# EAGLE library part TUSB8020B (library capstone)
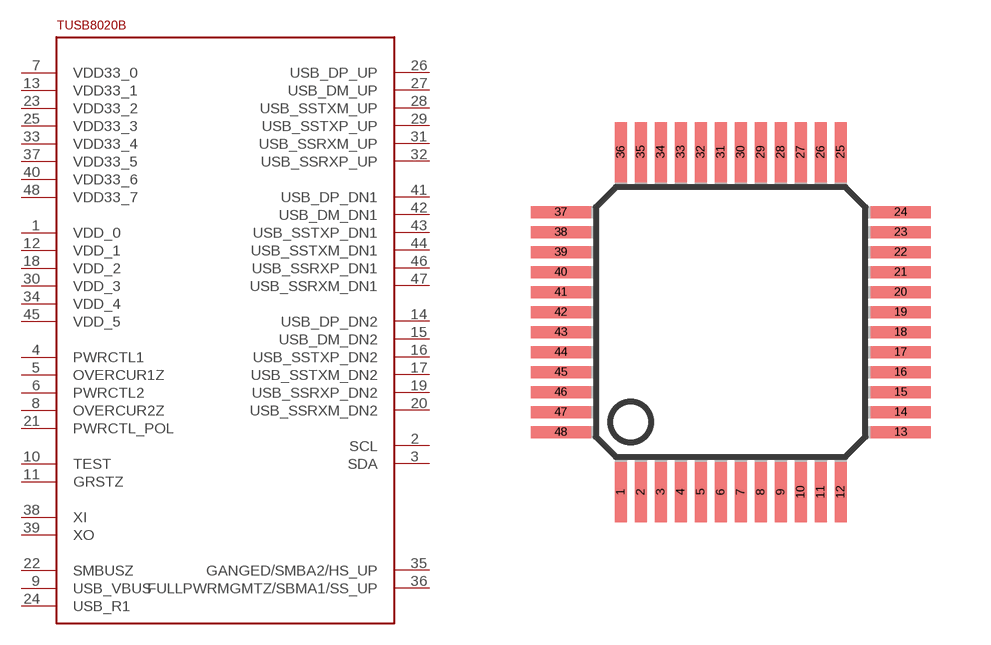
[diagram p7: symbol with the pads of TQFP48; footprint TQFP48]

Designator prefix -

## TUSB8020B  [TQFP48]
1  VDD_0
2  SCL
3  SDA
4  PWRCTL1
5  OVERCUR1Z
6  PWRCTL2
7  VDD33_0  pwr
8  OVERCUR2Z
9  USB_VBUS
10  TEST
11  GRSTZ
12  VDD_1
13  VDD33_1  pwr
14  USB_DP_DN2
15  USB_DM_DN2
16  USB_SSTXP_DN2
17  USB_SSTXM_DN2
18  VDD_2
19  USB_SSRXP_DN2
20  USB_SSRXM_DN2
21  PWRCTL_POL
22  SMBUSZ
23  VDD33_2
24  USB_R1
25  VDD33_3
26  USB_DP_UP
27  USB_DM_UP
28  USB_SSTXM_UP
29  USB_SSTXP_UP
30  VDD_3
31  USB_SSRXM_UP
32  USB_SSRXP_UP
33  VDD33_4
34  VDD_4
35  GANGED/SMBA2/HS_UP
36  FULLPWRMGMTZ/SBMA1/SS_UP
37  VDD33_5
38  XI
39  XO
40  VDD33_6
41  USB_DP_DN1
42  USB_DM_DN1
43  USB_SSTXP_DN1
44  USB_SSTXM_DN1
45  VDD_5
46  USB_SSRXP_DN1
47  USB_SSRXM_DN1
48  VDD33_7

## Footprint TQFP48 (pad centres in mm)
Thin Quad Flat Pack
smd 0.3 x 1.5: 1 -2.75,-4.25; 2 -2.25,-4.25; 3 -1.75,-4.25; 4 -1.25,-4.25; 5 -0.75,-4.25; 6 -0.25,-4.25; 7 0.25,-4.25; 8 0.75,-4.25; 9 1.25,-4.25; 10 1.75,-4.25; 11 2.25,-4.25; 12 2.75,-4.25; 25 2.75,4.25; 26 2.25,4.25; 27 1.75,4.25; 28 1.25,4.25; 29 0.75,4.25; 30 0.25,4.25; 31 -0.25,4.25; 32 -0.75,4.25; 33 -1.25,4.25; 34 -1.75,4.25; 35 -2.25,4.25; 36 -2.75,4.25
smd 1.5 x 0.3: 13 4.25,-2.75; 14 4.25,-2.25; 15 4.25,-1.75; 16 4.25,-1.25; 17 4.25,-0.75; 18 4.25,-0.25; 19 4.25,0.25; 20 4.25,0.75; 21 4.25,1.25; 22 4.25,1.75; 23 4.25,2.25; 24 4.25,2.75; 37 -4.25,2.75; 38 -4.25,2.25; 39 -4.25,1.75; 40 -4.25,1.25; 41 -4.25,0.75; 42 -4.25,0.25; 43 -4.25,-0.25; 44 -4.25,-0.75; 45 -4.25,-1.25; 46 -4.25,-1.75; 47 -4.25,-2.25; 48 -4.25,-2.75